# Altium footprint library MDM-15.PcbLib: 1 footprints
Each footprint in its own frame and in the unit in brackets; x right, y up, seen from the top. Pads: shape width x height; smd on the part's side, far side on the other; paste and mask are expansions set on the pad; w line width, h text height; cw(c..) or ccw(c..) is an arc to the next point about the centre after c.
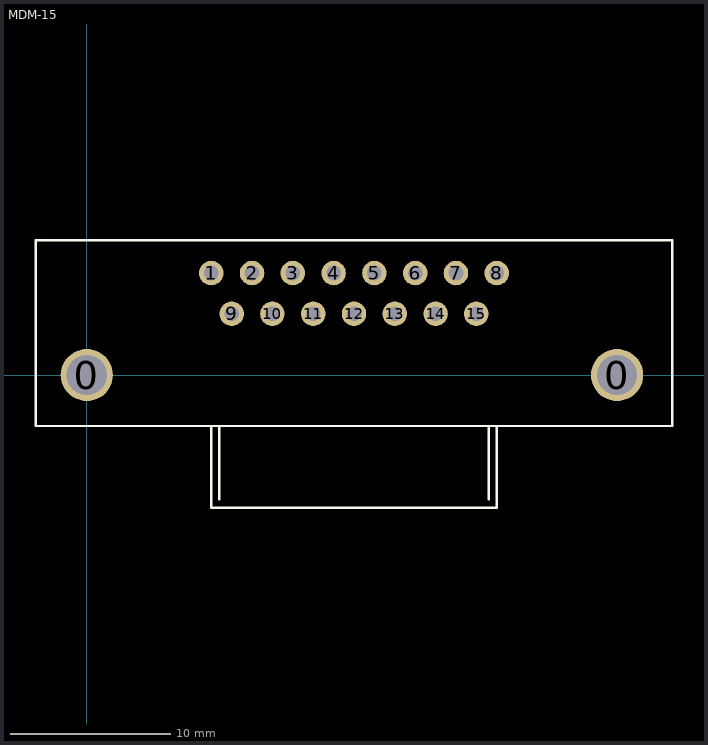
[diagram p0: the footprint, top view; thin cyan lines are the x and y axes]

## MDM-15 [mil]
pads (17):
  round 128 hole 98.43: 0(0,0) 0(1300,0)
  round 60 hole 36: 1(305,250) 2(405,250) 3(505,250) 4(605,250) 5(705,250) 6(805,250) 7(905,250) 8(1005,250) 9(355,150) 10(455,150) 11(555,150) 12(655,150) 13(755,150) 14(855,150) 15(955,150)
TopOverlay:
  lines w6: 325,-305 325,-125 ; 705,-125 305,-125 305,-325 1005,-325 1005,-125 ; 985,-305 985,-125 ; -125,-125 1435,-125 1435,330 -125,330 -125,-125
3D body: height 308, standoff 0, extent -125,-120 1435,330